# EAGLE library part TB6612_BREAKOUT (library 3872_Part_Library)
Adafruit TB6612 stepper motor controller breakout board. Info and datasheets. <https://www.adafruit.com/product/2448>
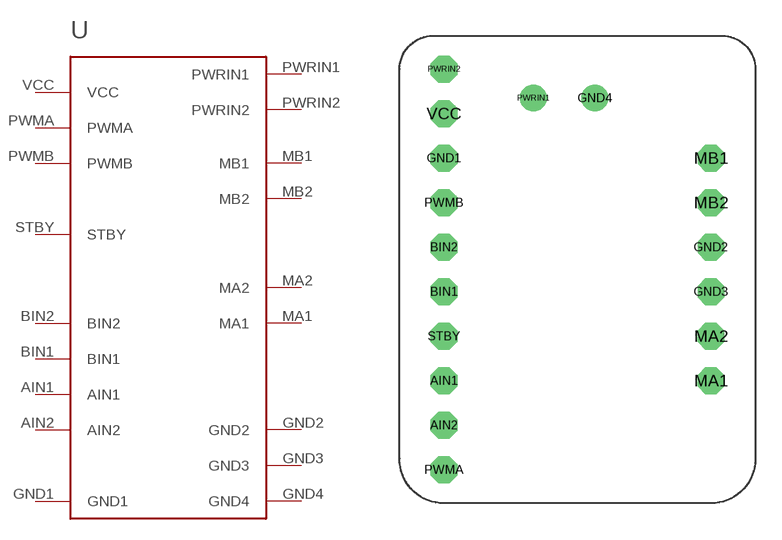
[diagram p1: symbol with the pads of TB6612_BREAKOUT; footprint TB6612_BREAKOUT]

Designator prefix -

## TB6612_BREAKOUT  [TB6612_BREAKOUT]
AIN1  AIN1
AIN2  AIN2
BIN1  BIN1
BIN2  BIN2
GND1  GND1
GND2  GND2
GND3  GND3
GND4  GND4
MA1  MA1
MA2  MA2
MB1  MB1
MB2  MB2
PWMA  PWMA
PWMB  PWMB
PWRIN1  PWRIN1
PWRIN2  PWRIN2
STBY  STBY
VCC  VCC

## Footprint TB6612_BREAKOUT (pad centres in mm)
drill 1.016 octagon: AIN1 2.54,7.62; AIN2 2.54,5.08; BIN1 2.54,12.7; BIN2 2.54,15.24; GND1 2.54,20.32; GND2 17.78,15.24; GND3 17.78,12.7; MA1 17.78,7.62; MA2 17.78,10.16; MB1 17.78,20.32; MB2 17.78,17.78; PWMA 2.54,2.54; PWMB 2.54,17.78; PWRIN2 2.54,25.4; STBY 2.54,10.16; VCC 2.54,22.86
drill 1.016: GND4 11.151,23.749; PWRIN1 7.645,23.749